# Altium footprint library VQFN-HR_7.PcbLib: 1 footprints
Each footprint in its own frame and in the unit in brackets; x right, y up, seen from the top. Pads: shape width x height; smd on the part's side, far side on the other; paste and mask are expansions set on the pad; w line width, h text height; cw(c..) or ccw(c..) is an arc to the next point about the centre after c.
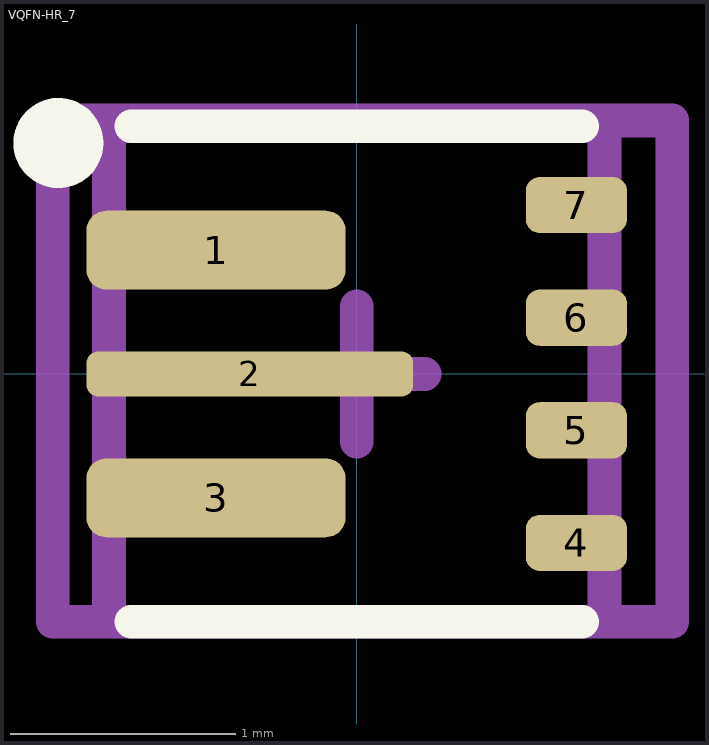
[diagram p0: the footprint, top view; thin cyan lines are the x and y axes]

## VQFN-HR_7 [mm]
pads (7):
  rrect50% 1.15x0.35 smd paste-10 mask+0.05: 1(-0.625,0.55) 3(-0.625,-0.55)
  rrect50% 1.45x0.2 smd paste-10 mask+0.05: 2(-0.475,0)
  rrect50% 0.45x0.25 smd mask+0.05: 4(0.975,-0.75) 5(0.975,-0.25) 6(0.975,0.25) 7(0.975,0.75)
Top Overlay:
  circle w0.2: c-1.325,1.025 r0.1
  lines w0.15: -1,-1.1 1,-1.1 ; -1,1.1 1,1.1
Top Paste:
  drawing of 6 lines, arcs and shapes, not listed
Top Assembly:
  lines w0.15: -1.1,-1.1 -0.8,-1.1 1.1,-1.1 1.1,1.1 -1.1,1.1 -1.1,-1.1
Top Courtyard:
  lines w0.15: -0.3,0 0.3,0 ; 0,-0.3 0,0.3 ; -1.35,-1.1 1.4,-1.1 1.4,1.125 -1.35,1.125 -1.35,-1.1
3D body "RWU0007A.stp": height 1, standoff 0, extent -1,-1 1,1